# EAGLE library part OPA847 (library EagleLibrary)
Opamp Wideband: 3.9GHz Low noise: 0.85nV/√Hz
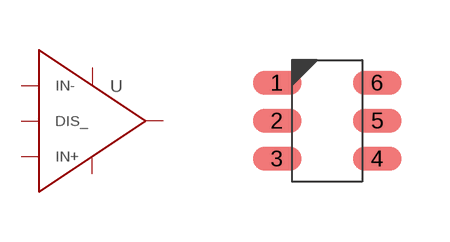
[diagram p1: symbol with the pads of OPA847; footprint OPA847]

Designator prefix U

## OPA847 (MFG: Texas Instruments; PN: OPA847)  [OPA847]
1  OUT
2  VS-
3  IN+
4  IN-
5  DIS_
6  VS+

## Footprint OPA847 (pad centres in mm)
6-SOT23, 0.95 mm pitch, 2.80 mm span, 2.90 X 1.60 X 1.45 mm body 6-pin SOT23 package with 0.95 mm pitch, 2.80 mm span with body size 2.90 X 1.60 X 1.45 mm
smd 1.209 x 0.584: 1 -1.253,0.95; 2 -1.253,0; 3 -1.253,-0.95; 4 1.253,-0.95; 5 1.253,0; 6 1.253,0.95